# EAGLE library part USB2512B (library Controller Board)
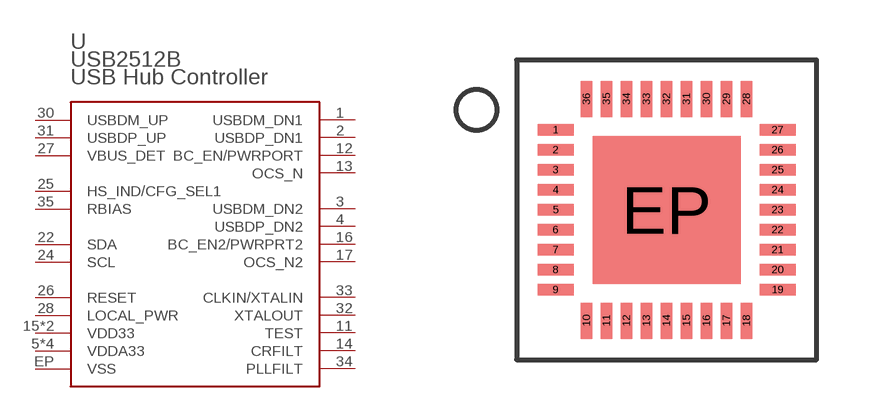
[diagram p12: symbol with the pads of 36-SQFN; footprint 36-SQFN]

Designator prefix -

## USB2512B  [36-SQFN]
1  USBDM_DN1
2  USBDP_DN1
3  USBDM_DN2
4  USBDP_DN2
5  VDDA33
10  VDDA33
11  TEST
12  BC_EN/PWRPORT
13  OCS_N
14  CRFILT
15  VDD33
16  BC_EN2/PWRPRT2
17  OCS_N2
22  SDA
23  VDD33
24  SCL
25  HS_IND/CFG_SEL1
26  RESET
27  VBUS_DET
28  LOCAL_PWR
29  VDDA33
30  USBDM_UP
31  USBDP_UP
32  XTALOUT
33  CLKIN/XTALIN
34  PLLFILT
35  RBIAS
36  VDDA33
EP  VSS

## Footprint 36-SQFN (pad centres in mm)
smd 0.9 x 0.28: 1 -2.775,2; 2 -2.775,1.5; 3 -2.775,1; 4 -2.775,0.5; 5 -2.775,0; 6 -2.775,-0.5; 7 -2.775,-1; 8 -2.775,-1.5; 9 -2.775,-2; 19 2.775,-2; 20 2.775,-1.5; 21 2.775,-1; 22 2.775,-0.5; 23 2.775,0; 24 2.775,0.5; 25 2.775,1; 26 2.775,1.5; 27 2.775,2
smd 0.28 x 0.9: 10 -2,-2.775; 11 -1.5,-2.775; 12 -1,-2.775; 13 -0.5,-2.775; 14 0,-2.775; 15 0.5,-2.775; 16 1,-2.775; 17 1.5,-2.775; 18 2,-2.775; 28 2,2.775; 29 1.5,2.775; 30 1,2.775; 31 0.5,2.775; 32 0,2.775; 33 -0.5,2.775; 34 -1,2.775; 35 -1.5,2.775; 36 -2,2.775
smd 3.7 x 3.7: EP 0,0